# Altium footprint library WEIDMULLER THD.PcbLib: 20 footprints (part 2 of 2)
Each footprint in its own frame and in the unit in brackets; x right, y up, seen from the top. Pads: shape width x height; smd on the part's side, far side on the other; paste and mask are expansions set on the pad; w line width, h text height; cw(c..) or ccw(c..) is an arc to the next point about the centre after c.
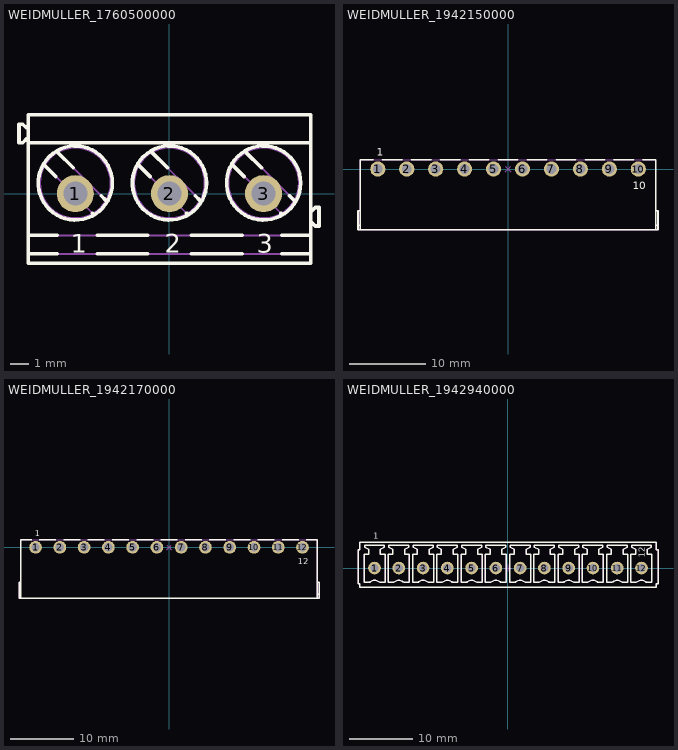
[diagram p1: the footprints below, top view; thin cyan lines are the x and y axes]

## WEIDMULLER_1760500000 [mm] "Terminal Block, 24A 600V, Pitch 5.08mm, 3 Positions, Screw Connection"
height 10
pads (3):
  round 2 hole 1.3: 1(-5.08,0) 2(0,0) 3(5.08,0)
Top Overlay:
  circle w0.2: c-5.08,0.577 r2
  circle w0.2: c0,0.577 r2
  circle w0.2: c5.08,0.577 r2
  lines w0.2: -7.62,-3.25 -6.065,-3.25 ; -7.62,-2.25 -6.065,-2.25 ; -7.62,2.75 7.62,2.75 ; -7.62,2.95 -7.72,2.95 -7.92,2.75 -8.12,2.75 -8.12,3.75 -7.92,3.75 -7.72,3.55 -7.62,3.55 ; -6.73,1.52 -6.133,0.923 ; -6.023,2.227 -5.191,1.396 ; -4.157,-1.053 -4.137,-1.073 ; -3.89,-3.25 -1.165,-3.25 ; -3.89,-2.25 -1.165,-2.25 ; -3.684,-0.111 -3.43,-0.366 ; -1.65,1.52 -1.053,0.923 ; -0.943,2.227 -0.111,1.396 ; 0.923,-1.053 0.943,-1.073 ; 1.19,-3.25 3.915,-3.25 ; 1.19,-2.25 3.915,-2.25 ; 1.396,-0.111 1.65,-0.366 ; 3.43,1.52 4.027,0.923 ; 4.137,2.227 4.969,1.396 ; 6.003,-1.053 6.023,-1.073 ; 6.065,-3.25 7.62,-3.25 ; 6.065,-2.25 7.62,-2.25 ; 6.476,-0.111 6.73,-0.366 ; 7.62,-1.55 7.67,-1.55 7.87,-1.75 8.07,-1.75 8.07,-0.75 7.87,-0.75 7.67,-0.95 7.62,-0.95 ; -7.62,-3.75 7.62,-3.75 7.62,4.25 -7.62,4.25 -7.62,-3.75
  text "2" at -0.252,-3.2 h1
  text "1" at -5.332,-3.2 h1
  text "3" at 4.709,-3.2 h1
Mechanical 8:
  lines w0.1: -5.58,0 -5.08,0 ; -5.08,-0.5 -5.08,0 ; -5.08,0.5 -5.08,0 ; -4.58,0 -5.08,0 ; -0.5,0 0,0 ; 0,-0.5 0,0 ; 0,0.5 0,0 ; 0.5,0 0,0 ; 4.58,0 5.08,0 ; 5.08,-0.5 5.08,0 ; 5.08,0.5 5.08,0 ; 5.58,0 5.08,0
Mechanical 14:
  circle w0.1: c-5.08,0.577 r2
  circle w0.1: c-5.08,0.577 r1.9
  circle w0.1: c0,0.577 r2
  circle w0.1: c0,0.577 r1.9
  circle w0.1: c5.08,0.577 r2
  circle w0.1: c5.08,0.577 r1.9
  lines w0.1: -7.62,-3.25 7.62,-3.25 ; -7.62,-2.25 7.62,-2.25 ; -7.62,2.75 7.62,2.75 ; -7.62,2.95 -7.72,2.95 -7.92,2.75 -8.12,2.75 -8.12,3.75 -7.92,3.75 -7.72,3.55 -7.62,3.55 ; -6.73,1.52 -4.137,-1.073 ; -6.023,2.227 -3.43,-0.366 ; -1.65,1.52 0.943,-1.073 ; -0.943,2.227 1.65,-0.366 ; 3.43,1.52 6.023,-1.073 ; 4.137,2.227 6.73,-0.366 ; 7.62,-1.55 7.67,-1.55 7.87,-1.75 8.07,-1.75 8.07,-0.75 7.87,-0.75 7.67,-0.95 7.62,-0.95 ; -7.62,-3.75 7.62,-3.75 7.62,4.25 -7.62,4.25 -7.62,-3.75
  text "2" at -0.252,-3.2 h1
  text "1" at -5.332,-3.2 h1
  text "3" at 4.709,-3.2 h1
3D body: height 10, standoff -3.5, extent -8.12,-3.75 8.07,4.25

## WEIDMULLER_1942150000 [mm] "10A 300 V, Pitch 3.81mm, 10 Positions PCB Right Angle Male Header, BC/SC 3.81 Serie"
height 7.1
pads (10):
  round 2 hole 1.3: 1(-17.145,0) 2(-13.335,0) 3(-9.525,0) 4(-5.715,0) 5(-1.905,0) 6(1.905,0) 7(5.715,0) 8(9.525,0) 9(13.335,0) 10(17.145,0)
Top Overlay:
  lines w0.2: -19.75,-7.395 -19.45,-7.395 ; -19.45,-7.995 -19.45,1.205 -17.754,1.205 ; -19.45,-5.495 -19.75,-5.495 -19.75,-7.995 19.74,-7.995 19.74,-5.495 19.44,-5.495 ; -16.536,1.205 -13.944,1.205 ; -12.726,1.205 -10.134,1.205 ; -8.916,1.205 -6.324,1.205 ; -5.106,1.205 -2.514,1.205 ; -1.296,1.205 1.296,1.205 ; 2.514,1.205 5.106,1.205 ; 6.324,1.205 8.916,1.205 ; 10.134,1.205 12.726,1.205 ; 13.944,1.205 16.536,1.205 ; 17.754,1.205 19.44,1.205 19.44,-7.995 ; 19.44,-7.395 19.74,-7.395
  text "10" at 16.405,-2.65 h1
  text "1" at -17.28,1.75 h1
Mechanical 8:
  lines w0.1: -17.645,0 -17.145,0 ; -17.145,-0.5 -17.145,0 ; -17.145,0.5 -17.145,0 ; -16.645,0 -17.145,0 ; -13.835,0 -13.335,0 ; -13.335,-0.5 -13.335,0 ; -13.335,0.5 -13.335,0 ; -12.835,0 -13.335,0 ; -10.025,0 -9.525,0 ; -9.525,-0.5 -9.525,0 ; -9.525,0.5 -9.525,0 ; -9.025,0 -9.525,0 ; -6.215,0 -5.715,0 ; -5.715,-0.5 -5.715,0 ; -5.715,0.5 -5.715,0 ; -5.215,0 -5.715,0 ; -2.405,0 -1.905,0 ; -1.905,-0.5 -1.905,0 ; -1.905,0.5 -1.905,0 ; -1.405,0 -1.905,0 ; -0.354,-0.354 0,0 ; -0.354,0.354 0,0 ; 0.354,-0.354 0,0 ; 0.354,0.354 0,0 ; 1.405,0 1.905,0 ; 1.905,-0.5 1.905,0 ; 1.905,0.5 1.905,0 ; 2.405,0 1.905,0 ; 5.215,0 5.715,0 ; 5.715,-0.5 5.715,0 ; 5.715,0.5 5.715,0 ; 6.215,0 5.715,0 ; 9.025,0 9.525,0 ; 9.525,-0.5 9.525,0 ; 9.525,0.5 9.525,0 ; 10.025,0 9.525,0 ; 12.835,0 13.335,0 ; 13.335,-0.5 13.335,0 ; 13.335,0.5 13.335,0 ; 13.835,0 13.335,0 ; 16.645,0 17.145,0 ; 17.145,-0.5 17.145,0 ; 17.145,0.5 17.145,0 ; 17.645,0 17.145,0
Mechanical 14:
  lines w0.1: -19.75,-7.395 -19.45,-7.395 ; -19.45,-7.995 -19.45,1.205 19.44,1.205 19.44,-7.995 ; -19.45,-5.495 -19.75,-5.495 -19.75,-7.995 19.74,-7.995 19.74,-5.495 19.44,-5.495 ; 19.44,-7.395 19.74,-7.395
  text "10" at 16.405,-2.65 h1
  text "9" at 12.995,-2.65 h1
  text "8" at 9.185,-2.65 h1
  text "7" at 5.375,-2.65 h1
  text "6" at 1.565,-2.65 h1
  text "5" at -2.245,-2.65 h1
  text "4" at -6.055,-2.65 h1
  text "3" at -9.865,-2.65 h1
  text "2" at -13.675,-2.65 h1
  text "1" at -17.485,-2.65 h1
3D body: height 7.05, standoff -3.2, extent -19.75,-7.995 19.74,1.205

## WEIDMULLER_1942170000 [mm] "10A 300 V, Pitch 3.81mm, 12 Positions PCB Right Angle Male Header, BC/SC 3.81 Serie"
height 7.1
pads (12):
  round 2 hole 1.3: 1(-20.955,0) 2(-17.145,0) 3(-13.335,0) 4(-9.525,0) 5(-5.715,0) 6(-1.905,0) 7(1.905,0) 8(5.715,0) 9(9.525,0) 10(13.335,0) 11(17.145,0) 12(20.955,0)
Top Overlay:
  lines w0.2: -23.56,-7.395 -23.26,-7.395 ; -23.26,-7.995 -23.26,1.205 -21.564,1.205 ; -23.26,-5.495 -23.56,-5.495 -23.56,-7.995 23.55,-7.995 23.55,-5.495 23.25,-5.495 ; -20.346,1.205 -17.754,1.205 ; -16.536,1.205 -13.944,1.205 ; -12.726,1.205 -10.134,1.205 ; -8.916,1.205 -6.324,1.205 ; -5.106,1.205 -2.514,1.205 ; -1.296,1.205 1.296,1.205 ; 2.514,1.205 5.106,1.205 ; 6.324,1.205 8.916,1.205 ; 10.134,1.205 12.726,1.205 ; 13.944,1.205 16.536,1.205 ; 17.754,1.205 20.346,1.205 ; 21.564,1.205 23.25,1.205 23.25,-7.995 ; 23.25,-7.395 23.55,-7.395
  text "12" at 20.215,-2.65 h1
  text "1" at -21.09,1.75 h1
Mechanical 8:
  lines w0.1: -21.455,0 -20.955,0 ; -20.955,-0.5 -20.955,0 ; -20.955,0.5 -20.955,0 ; -20.455,0 -20.955,0 ; -17.645,0 -17.145,0 ; -17.145,-0.5 -17.145,0 ; -17.145,0.5 -17.145,0 ; -16.645,0 -17.145,0 ; -13.835,0 -13.335,0 ; -13.335,-0.5 -13.335,0 ; -13.335,0.5 -13.335,0 ; -12.835,0 -13.335,0 ; -10.025,0 -9.525,0 ; -9.525,-0.5 -9.525,0 ; -9.525,0.5 -9.525,0 ; -9.025,0 -9.525,0 ; -6.215,0 -5.715,0 ; -5.715,-0.5 -5.715,0 ; -5.715,0.5 -5.715,0 ; -5.215,0 -5.715,0 ; -2.405,0 -1.905,0 ; -1.905,-0.5 -1.905,0 ; -1.905,0.5 -1.905,0 ; -1.405,0 -1.905,0 ; -0.354,-0.354 0,0 ; -0.354,0.354 0,0 ; 0.354,-0.354 0,0 ; 0.354,0.354 0,0 ; 1.405,0 1.905,0 ; 1.905,-0.5 1.905,0 ; 1.905,0.5 1.905,0 ; 2.405,0 1.905,0 ; 5.215,0 5.715,0 ; 5.715,-0.5 5.715,0 ; 5.715,0.5 5.715,0 ; 6.215,0 5.715,0 ; 9.025,0 9.525,0 ; 9.525,-0.5 9.525,0 ; 9.525,0.5 9.525,0 ; 10.025,0 9.525,0 ; 12.835,0 13.335,0 ; 13.335,-0.5 13.335,0 ; 13.335,0.5 13.335,0 ; 13.835,0 13.335,0 ; 16.645,0 17.145,0 ; 17.145,-0.5 17.145,0 ; 17.145,0.5 17.145,0 ; 17.645,0 17.145,0 ; 20.455,0 20.955,0 ; 20.955,-0.5 20.955,0 ; 20.955,0.5 20.955,0 ; 21.455,0 20.955,0
Mechanical 14:
  lines w0.1: -23.56,-7.395 -23.26,-7.395 ; -23.26,-7.995 -23.26,1.205 23.25,1.205 23.25,-7.995 ; -23.26,-5.495 -23.56,-5.495 -23.56,-7.995 23.55,-7.995 23.55,-5.495 23.25,-5.495 ; 23.25,-7.395 23.55,-7.395
  text "12" at 20.215,-2.65 h1
  text "11" at 16.405,-2.65 h1
  text "1" at -21.295,-2.65 h1
  text "2" at -17.485,-2.65 h1
  text "3" at -13.675,-2.65 h1
  text "4" at -9.865,-2.65 h1
  text "5" at -6.055,-2.65 h1
  text "6" at -2.245,-2.65 h1
  text "7" at 1.565,-2.65 h1
  text "8" at 5.375,-2.65 h1
  text "9" at 9.185,-2.65 h1
  text "10" at 12.595,-2.65 h1
3D body: height 7.05, standoff -3.2, extent -23.56,-7.995 23.55,1.205

## WEIDMULLER_1942940000 [mm] "24A 400 V, Pitch 3.81mm, 12 Positions PCB Male Header, Type SC 3.81 Serie"
height 9.2
pads (12):
  round 2 hole 1.3: 1(-20.955,0) 2(-17.145,0) 3(-13.335,0) 4(-9.525,0) 5(-5.715,0) 6(-1.905,0) 7(1.905,0) 8(5.715,0) 9(9.525,0) 10(13.335,0) 11(17.145,0) 12(20.955,0)
Top Overlay:
  drawing of 194 lines, arcs and shapes, not listed
  text "12" at 21.475,1.615 h1
  text "1" at -21.19,4.6 h1
Mechanical 8:
  lines w0.1: -21.455,0 -20.955,0 ; -20.955,-0.5 -20.955,0 ; -20.955,0.5 -20.955,0 ; -20.455,0 -20.955,0 ; -17.645,0 -17.145,0 ; -17.145,-0.5 -17.145,0 ; -17.145,0.5 -17.145,0 ; -16.645,0 -17.145,0 ; -13.835,0 -13.335,0 ; -13.335,-0.5 -13.335,0 ; -13.335,0.5 -13.335,0 ; -12.835,0 -13.335,0 ; -10.025,0 -9.525,0 ; -9.525,-0.5 -9.525,0 ; -9.525,0.5 -9.525,0 ; -9.025,0 -9.525,0 ; -6.215,0 -5.715,0 ; -5.715,-0.5 -5.715,0 ; -5.715,0.5 -5.715,0 ; -5.215,0 -5.715,0 ; -2.405,0 -1.905,0 ; -1.905,-0.5 -1.905,0 ; -1.905,0.5 -1.905,0 ; -1.405,0 -1.905,0 ; -0.5,0 0,0 ; 0,-0.5 0,0 ; 0,0.5 0,0 ; 0.5,0 0,0 ; 1.405,0 1.905,0 ; 1.905,-0.5 1.905,0 ; 1.905,0.5 1.905,0 ; 2.405,0 1.905,0 ; 5.215,0 5.715,0 ; 5.715,-0.5 5.715,0 ; 5.715,0.5 5.715,0 ; 6.215,0 5.715,0 ; 9.025,0 9.525,0 ; 9.525,-0.5 9.525,0 ; 9.525,0.5 9.525,0 ; 10.025,0 9.525,0 ; 12.835,0 13.335,0 ; 13.335,-0.5 13.335,0 ; 13.335,0.5 13.335,0 ; 13.835,0 13.335,0 ; 16.645,0 17.145,0 ; 17.145,-0.5 17.145,0 ; 17.145,0.5 17.145,0 ; 17.645,0 17.145,0 ; 20.455,0 20.955,0 ; 20.955,-0.5 20.955,0 ; 20.955,0.5 20.955,0 ; 21.455,0 20.955,0
Mechanical 14:
  drawing of 194 lines, arcs and shapes, not listed
  text "10" at 12.595,1.4 h1
  text "9" at 9.185,1.4 h1
  text "11" at 16.405,1.4 h1
  text "12" at 21.475,1.615 h1
  text "8" at 5.375,1.4 h1
  text "7" at 1.565,1.4 h1
  text "3" at -13.675,1.4 h1
  text "2" at -17.485,1.4 h1
  text "1" at -21.09,1.4 h1
  text "4" at -9.865,1.4 h1
  text "5" at -6.055,1.4 h1
  text "6" at -2.245,1.4 h1
3D body: height 9.2, standoff -3.2, extent -23.555,-3 23.555,4.05